# EAGLE library part 6270XX21721_62705021721 (library con-wurth-board-header)
WR-BHD 1.27 mm Male Angled Box Header KIND PROPERTIES: Pitch 1.27 mm Gender:Male MATERIAL PROPERTIES: Insulator Material Nylon 9T Insulator Flammability Rating UL94 V-0 Insulator Color Black Contact Material Brass Contact Plating Gold over Nickel GENERAL INFORMATION: Operating Temperature -40 up to +105 °C Working Voltage 50 V (AC) Withstanding Voltage 500 V (AC) Contact Resistance 20 mΩ RISO 1000 MΩ CERTIFICATION: UL Approval E323964 <https://www.we-online.com/catalog/media/o375402v209%20Family_WR-BHD_6270xx21721.jpg> Details see: https://www.we-online.com/catalog/en/WR_BHD_1_27_MM_MALE_ANGLED_BOX_HEADER Created by Ella Wu 2021-08-24 2021 (C) Würth Elektronik
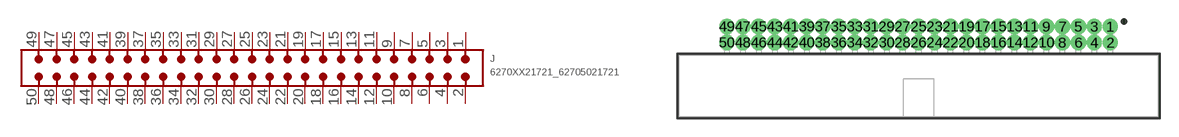
[diagram p66: symbol with the pads of 62705021721; footprint 62705021721]

Designator prefix J

## 6270XX21721_62705021721 (CONTACT-RESISTANCE: 20mOhm; DATASHEET-URL: https://www.we-online.com/redexpert/spec/62705021721?ae; GENDER: Male; IR: 1A; LENGTH: 38.1mm; MOUNT: THT; PART-NUMBER: 62705021721; PINS: 50; PITCH: 1.27mm; TYPE: Angled; VALUE: 62705021721; WORKING-VOLTAGE: 50V(AC))  [62705021721]
1  1  pas
2  2  pas
3  3  pas
4  4  pas
5  5  pas
6  6  pas
7  7  pas
8  8  pas
9  9  pas
10  10  pas
11  11  pas
12  12  pas
13  13  pas
14  14  pas
15  15  pas
16  16  pas
17  17  pas
18  18  pas
19  19  pas
20  20  pas
21  21  pas
22  22  pas
23  23  pas
24  24  pas
25  25  pas
26  26  pas
27  27  pas
28  28  pas
29  29  pas
30  30  pas
31  31  pas
32  32  pas
33  33  pas
34  34  pas
35  35  pas
36  36  pas
37  37  pas
38  38  pas
39  39  pas
40  40  pas
41  41  pas
42  42  pas
43  43  pas
44  44  pas
45  45  pas
46  46  pas
47  47  pas
48  48  pas
49  49  pas
50  50  pas

## Footprint 62705021721 (pad centres in mm)
WR-BHD 1,27mm Male THT Box Header Right angle, 50Pins
drill 0.7 pad 1.05: 1 15.24,4.72; 2 15.24,3.45; 3 13.97,4.72; 4 13.97,3.45; 5 12.7,4.72; 6 12.7,3.45; 7 11.43,4.72; 8 11.43,3.45; 9 10.16,4.72; 10 10.16,3.45; 11 8.89,4.72; 12 8.89,3.45; 13 7.62,4.72; 14 7.62,3.45; 15 6.35,4.72; 16 6.35,3.45; 17 5.08,4.72; 18 5.08,3.45; 19 3.81,4.72; 20 3.81,3.45; 21 2.54,4.72; 22 2.54,3.45; 23 1.27,4.72; 24 1.27,3.45; 25 0,4.72; 26 0,3.45; 27 -1.27,4.72; 28 -1.27,3.45; 29 -2.54,4.72; 30 -2.54,3.45; 31 -3.81,4.72; 32 -3.81,3.45; 33 -5.08,4.72; 34 -5.08,3.45; 35 -6.35,4.72; 36 -6.35,3.45; 37 -7.62,4.72; 38 -7.62,3.45; 39 -8.89,4.72; 40 -8.89,3.45; 41 -10.16,4.72; 42 -10.16,3.45; 43 -11.43,4.72; 44 -11.43,3.45; 45 -12.7,4.72; 46 -12.7,3.45; 47 -13.97,4.72; 48 -13.97,3.45; 49 -15.24,4.72; 50 -15.24,3.45